# Altium integrated library TI Logic Multiplexer.IntLib: 724 symbols (part 8 of 16)
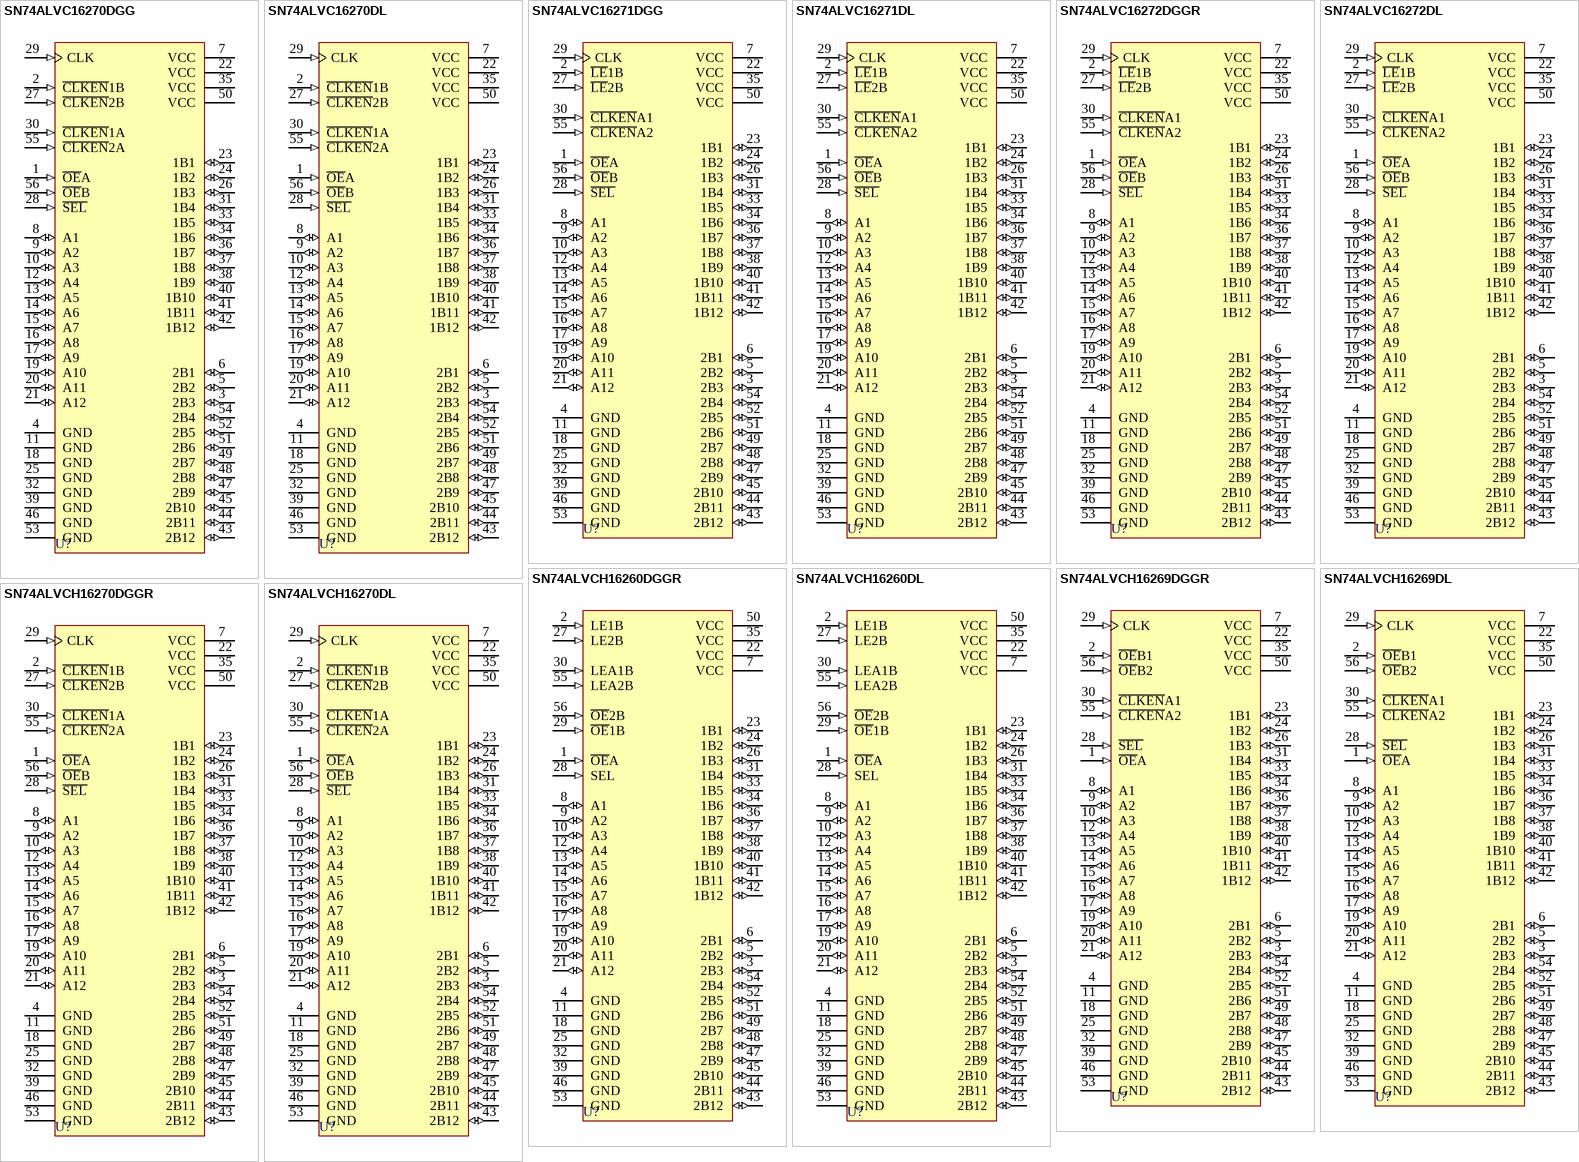
[diagram p31: symbols SN74ALVC16270DGG to SN74ALVCH16270DL]

## SN74ALVC16272DGGR
designator U?
12-Bit to 24-Bit Multiplexed Bus Exchanger with 3-State Outputs; Published: 8-Jun-2000; LatestRevisionDate: 29-Mar-2007; LatestRevisionNote: IPC-7351 Footprint Added.; DatasheetVersion: Mar-1994; PackageVersion: Jan-1998; PackageReference: DGG056; Publisher: Altium Limited; PackageDescription: 56-Pin Thin Shrink Small Outline Package 0.5 mm Pitch; Code_IPC: TSSOP50P810-56; ComponentLink1Description: Manufacturer Link; ComponentLink1URL: http://www.ti.com/
footprint DGG056_N (TSSOP, 56-Leads, Body 14x6.1mm, Pitch 0.5mm, IPC Medium Density)
footprint DGG056_L (TSSOP, 56-Leads, Body 14x6.1mm, Pitch 0.5mm, IPC High Density)
footprint DGG056_M (TSSOP, 56-Leads, Body 14x6.1mm, Pitch 0.5mm, IPC Low Density)
3D model DGG056 (56-Pin Thin Shrink Small Outline Package 0.5 mm Pitch)
signal-integrity model SN74ALVC16272DGGR
pins: 1 ~{OE}A (in), 2 ~{LE}1B (in), 3 2B3 (io), 4 GND (power), 5 2B2 (io), 6 2B1 (io), 7 VCC (power), 8 A1 (io), 9 A2 (io), 10 A3 (io), 11 GND (power), 12 A4 (io), 13 A5 (io), 14 A6 (io), 15 A7 (io), 16 A8 (io), 17 A9 (io), 18 GND (power), 19 A10 (io), 20 A11 (io), 21 A12 (io), 22 VCC (power), 23 1B1 (io), 24 1B2 (io), 25 GND (power), 26 1B3 (io), 27 ~{LE}2B (in), 28 ~{SEL} (in), 29 CLK (in), 30 ~{CLKEN}A1 (in), 31 1B4 (io), 32 GND (power), 33 1B5 (io), 34 1B6 (io), 35 VCC (power), 36 1B7 (io), 37 1B8 (io), 38 1B9 (io), 39 GND (power), 40 1B10 (io), 41 1B11 (io), 42 1B12 (io), 43 2B12 (io), 44 2B11 (io), 45 2B10 (io), 46 GND (power), 47 2B9 (io), 48 2B8 (io), 49 2B7 (io), 50 VCC (power), 51 2B6 (io), 52 2B5 (io), 53 GND (power), 54 2B4 (io), 55 ~{CLKEN}A2 (in), 56 ~{OE}B (in)

## SN74ALVC16272DL
designator U?
12-Bit to 24-Bit Multiplexed Bus Exchanger with 3-State Outputs; Published: 8-Jun-2000; LatestRevisionDate: 29-Mar-2007; LatestRevisionNote: IPC-7351 Footprint Added.; DatasheetVersion: Mar-1994; PackageVersion: Dec-2001; PackageReference: DL056; Publisher: Altium Limited; PackageDescription: 56-Pin Small Outline Package 0.635 mm Pitch; Code_JEDEC: MO-118-AB; Code_IPC: SOP635P1035-56; ComponentLink1Description: Manufacturer Link; ComponentLink1URL: http://www.ti.com/
footprint DL056_N (SOP, 56-Leads, Body 18.4x7.5mm, Pitch 0.635mm, IPC Medium Density)
footprint DL056_L (SOP, 56-Leads, Body 18.4x7.5mm, Pitch 0.635mm, IPC High Density)
footprint DL056_M (SOP, 56-Leads, Body 18.4x7.5mm, Pitch 0.635mm, IPC Low Density)
3D model DL056 (56-Pin Small Outline Package 0.635 mm Pitch)
signal-integrity model SN74ALVC16272DL
pins: 1 ~{OE}A (in), 2 ~{LE}1B (in), 3 2B3 (io), 4 GND (power), 5 2B2 (io), 6 2B1 (io), 7 VCC (power), 8 A1 (io), 9 A2 (io), 10 A3 (io), 11 GND (power), 12 A4 (io), 13 A5 (io), 14 A6 (io), 15 A7 (io), 16 A8 (io), 17 A9 (io), 18 GND (power), 19 A10 (io), 20 A11 (io), 21 A12 (io), 22 VCC (power), 23 1B1 (io), 24 1B2 (io), 25 GND (power), 26 1B3 (io), 27 ~{LE}2B (in), 28 ~{SEL} (in), 29 CLK (in), 30 ~{CLKEN}A1 (in), 31 1B4 (io), 32 GND (power), 33 1B5 (io), 34 1B6 (io), 35 VCC (power), 36 1B7 (io), 37 1B8 (io), 38 1B9 (io), 39 GND (power), 40 1B10 (io), 41 1B11 (io), 42 1B12 (io), 43 2B12 (io), 44 2B11 (io), 45 2B10 (io), 46 GND (power), 47 2B9 (io), 48 2B8 (io), 49 2B7 (io), 50 VCC (power), 51 2B6 (io), 52 2B5 (io), 53 GND (power), 54 2B4 (io), 55 ~{CLKEN}A2 (in), 56 ~{OE}B (in)

## SN74ALVCH16260DGGR
designator U?
12-Bit to 24-Bit Multiplexed D-Type Latch with 3-State Outputs; Published: 8-Jun-2000; LatestRevisionDate: 29-Mar-2007; LatestRevisionNote: IPC-7351 Footprint Added.; DatasheetVersion: Nov-1996; PackageVersion: Jan-1998; PackageReference: DGG056; Publisher: Altium Limited; PackageDescription: 56-Pin Thin Shrink Small Outline Package 0.5 mm Pitch; Code_IPC: TSSOP50P810-56; ComponentLink1Description: Manufacturer Link; ComponentLink1URL: http://www.ti.com/
footprint DGG056_N (TSSOP, 56-Leads, Body 14x6.1mm, Pitch 0.5mm, IPC Medium Density)
footprint DGG056_L (TSSOP, 56-Leads, Body 14x6.1mm, Pitch 0.5mm, IPC High Density)
footprint DGG056_M (TSSOP, 56-Leads, Body 14x6.1mm, Pitch 0.5mm, IPC Low Density)
3D model DGG056 (56-Pin Thin Shrink Small Outline Package 0.5 mm Pitch)
pins: 1 ~{OE}A (in), 2 LE1B (in), 3 2B3 (io), 4 GND (power), 5 2B2 (io), 6 2B1 (io), 7 VCC (power), 8 A1 (io), 9 A2 (io), 10 A3 (io), 11 GND (power), 12 A4 (io), 13 A5 (io), 14 A6 (io), 15 A7 (io), 16 A8 (io), 17 A9 (io), 18 GND (power), 19 A10 (io), 20 A11 (io), 21 A12 (io), 22 VCC (power), 23 1B1 (io), 24 1B2 (io), 25 GND (power), 26 1B3 (io), 27 LE2B (in), 28 SEL (in), 29 ~{OE}1B (in), 30 LEA1B (in), 31 1B4 (io), 32 GND (power), 33 1B5 (io), 34 1B6 (io), 35 VCC (power), 36 1B7 (io), 37 1B8 (io), 38 1B9 (io), 39 GND (power), 40 1B10 (io), 41 1B11 (io), 42 1B12 (io), 43 2B12 (io), 44 2B11 (io), 45 2B10 (io), 46 GND (power), 47 2B9 (io), 48 2B8 (io), 49 2B7 (io), 50 VCC (power), 51 2B6 (io), 52 2B5 (io), 53 GND (power), 54 2B4 (io), 55 LEA2B (in), 56 ~{OE}2B (in)

## SN74ALVCH16260DL
designator U?
12-Bit to 24-Bit Multiplexed D-Type Latch with 3-State Outputs; Published: 8-Jun-2000; LatestRevisionDate: 29-Mar-2007; LatestRevisionNote: IPC-7351 Footprint Added.; DatasheetVersion: Nov-1996; PackageVersion: Dec-2001; PackageReference: DL056; Publisher: Altium Limited; PackageDescription: 56-Pin Small Outline Package 0.635 mm Pitch; Code_JEDEC: MO-118-AB; Code_IPC: SOP635P1035-56; ComponentLink1Description: Manufacturer Link; ComponentLink1URL: http://www.ti.com/
footprint DL056_N (SOP, 56-Leads, Body 18.4x7.5mm, Pitch 0.635mm, IPC Medium Density)
footprint DL056_L (SOP, 56-Leads, Body 18.4x7.5mm, Pitch 0.635mm, IPC High Density)
footprint DL056_M (SOP, 56-Leads, Body 18.4x7.5mm, Pitch 0.635mm, IPC Low Density)
3D model DL056 (56-Pin Small Outline Package 0.635 mm Pitch)
pins: 1 ~{OE}A (in), 2 LE1B (in), 3 2B3 (io), 4 GND (power), 5 2B2 (io), 6 2B1 (io), 7 VCC (power), 8 A1 (io), 9 A2 (io), 10 A3 (io), 11 GND (power), 12 A4 (io), 13 A5 (io), 14 A6 (io), 15 A7 (io), 16 A8 (io), 17 A9 (io), 18 GND (power), 19 A10 (io), 20 A11 (io), 21 A12 (io), 22 VCC (power), 23 1B1 (io), 24 1B2 (io), 25 GND (power), 26 1B3 (io), 27 LE2B (in), 28 SEL (in), 29 ~{OE}1B (in), 30 LEA1B (in), 31 1B4 (io), 32 GND (power), 33 1B5 (io), 34 1B6 (io), 35 VCC (power), 36 1B7 (io), 37 1B8 (io), 38 1B9 (io), 39 GND (power), 40 1B10 (io), 41 1B11 (io), 42 1B12 (io), 43 2B12 (io), 44 2B11 (io), 45 2B10 (io), 46 GND (power), 47 2B9 (io), 48 2B8 (io), 49 2B7 (io), 50 VCC (power), 51 2B6 (io), 52 2B5 (io), 53 GND (power), 54 2B4 (io), 55 LEA2B (in), 56 ~{OE}2B (in)

## SN74ALVCH16269DGGR
designator U?
12-Bit to 24-Bit Registered Bus Transceiver with 3-State Outputs; Note: Pin 27 is not connected and not drawn; Published: 8-Jun-2000; LatestRevisionDate: 29-Mar-2007; LatestRevisionNote: IPC-7351 Footprint Added.; DatasheetVersion: Jul-1997; PackageVersion: Jan-1998; PackageReference: DGG056; Publisher: Altium Limited; PackageDescription: 56-Pin Thin Shrink Small Outline Package 0.5 mm Pitch; Code_IPC: TSSOP50P810-56; ComponentLink1Description: Manufacturer Link; ComponentLink1URL: http://www.ti.com/
footprint DGG056_N (TSSOP, 56-Leads, Body 14x6.1mm, Pitch 0.5mm, IPC Medium Density)
footprint DGG056_L (TSSOP, 56-Leads, Body 14x6.1mm, Pitch 0.5mm, IPC High Density)
footprint DGG056_M (TSSOP, 56-Leads, Body 14x6.1mm, Pitch 0.5mm, IPC Low Density)
3D model DGG056 (56-Pin Thin Shrink Small Outline Package 0.5 mm Pitch)
pins: 1 ~{OE}A (in), 2 ~{OE}B1 (in), 3 2B3 (io), 4 GND (power), 5 2B2 (io), 6 2B1 (io), 7 VCC (power), 8 A1 (io), 9 A2 (io), 10 A3 (io), 11 GND (power), 12 A4 (io), 13 A5 (io), 14 A6 (io), 15 A7 (io), 16 A8 (io), 17 A9 (io), 18 GND (power), 19 A10 (io), 20 A11 (io), 21 A12 (io), 22 VCC (power), 23 1B1 (io), 24 1B2 (io), 25 GND (power), 26 1B3 (io), 28 ~{SEL} (in), 29 CLK (in), 30 ~{CLKEN}A1 (in), 31 1B4 (io), 32 GND (power), 33 1B5 (io), 34 1B6 (io), 35 VCC (power), 36 1B7 (io), 37 1B8 (io), 38 1B9 (io), 39 GND (power), 40 1B10 (io), 41 1B11 (io), 42 1B12 (io), 43 2B12 (io), 44 2B11 (io), 45 2B10 (io), 46 GND (power), 47 2B9 (io), 48 2B8 (io), 49 2B7 (io), 50 VCC (power), 51 2B6 (io), 52 2B5 (io), 53 GND (power), 54 2B4 (io), 55 ~{CLKEN}A2 (in), 56 ~{OE}B2 (in)

## SN74ALVCH16269DL
designator U?
12-Bit to 24-Bit Registered Bus Transceiver with 3-State Outputs; Note: Pin 27 is not connected and not drawn; Published: 8-Jun-2000; LatestRevisionDate: 29-Mar-2007; LatestRevisionNote: IPC-7351 Footprint Added.; DatasheetVersion: Jul-1997; PackageVersion: Dec-2001; PackageReference: DL056; Publisher: Altium Limited; PackageDescription: 56-Pin Small Outline Package 0.635 mm Pitch; Code_JEDEC: MO-118-AB; Code_IPC: SOP635P1035-56; ComponentLink1Description: Manufacturer Link; ComponentLink1URL: http://www.ti.com/
footprint DL056_N (SOP, 56-Leads, Body 18.4x7.5mm, Pitch 0.635mm, IPC Medium Density)
footprint DL056_L (SOP, 56-Leads, Body 18.4x7.5mm, Pitch 0.635mm, IPC High Density)
footprint DL056_M (SOP, 56-Leads, Body 18.4x7.5mm, Pitch 0.635mm, IPC Low Density)
3D model DL056 (56-Pin Small Outline Package 0.635 mm Pitch)
pins: 1 ~{OE}A (in), 2 ~{OE}B1 (in), 3 2B3 (io), 4 GND (power), 5 2B2 (io), 6 2B1 (io), 7 VCC (power), 8 A1 (io), 9 A2 (io), 10 A3 (io), 11 GND (power), 12 A4 (io), 13 A5 (io), 14 A6 (io), 15 A7 (io), 16 A8 (io), 17 A9 (io), 18 GND (power), 19 A10 (io), 20 A11 (io), 21 A12 (io), 22 VCC (power), 23 1B1 (io), 24 1B2 (io), 25 GND (power), 26 1B3 (io), 28 ~{SEL} (in), 29 CLK (in), 30 ~{CLKEN}A1 (in), 31 1B4 (io), 32 GND (power), 33 1B5 (io), 34 1B6 (io), 35 VCC (power), 36 1B7 (io), 37 1B8 (io), 38 1B9 (io), 39 GND (power), 40 1B10 (io), 41 1B11 (io), 42 1B12 (io), 43 2B12 (io), 44 2B11 (io), 45 2B10 (io), 46 GND (power), 47 2B9 (io), 48 2B8 (io), 49 2B7 (io), 50 VCC (power), 51 2B6 (io), 52 2B5 (io), 53 GND (power), 54 2B4 (io), 55 ~{CLKEN}A2 (in), 56 ~{OE}B2 (in)

## SN74ALVCH16270DGGR
designator U?
12-Bit to 24-Bit Registered Bus Exchanger with 3-State Outputs; Published: 8-Jun-2000; LatestRevisionDate: 29-Mar-2007; LatestRevisionNote: IPC-7351 Footprint Added.; DatasheetVersion: Jul-1997; PackageVersion: Jan-1998; PackageReference: DGG056; Publisher: Altium Limited; PackageDescription: 56-Pin Thin Shrink Small Outline Package 0.5 mm Pitch; Code_IPC: TSSOP50P810-56; ComponentLink1Description: Manufacturer Link; ComponentLink1URL: http://www.ti.com/
footprint DGG056_N (TSSOP, 56-Leads, Body 14x6.1mm, Pitch 0.5mm, IPC Medium Density)
footprint DGG056_L (TSSOP, 56-Leads, Body 14x6.1mm, Pitch 0.5mm, IPC High Density)
footprint DGG056_M (TSSOP, 56-Leads, Body 14x6.1mm, Pitch 0.5mm, IPC Low Density)
3D model DGG056 (56-Pin Thin Shrink Small Outline Package 0.5 mm Pitch)
pins: 1 ~{OE}A (in), 2 ~{CLKEN}1B (in), 3 2B3 (io), 4 GND (power), 5 2B2 (io), 6 2B1 (io), 7 VCC (power), 8 A1 (io), 9 A2 (io), 10 A3 (io), 11 GND (power), 12 A4 (io), 13 A5 (io), 14 A6 (io), 15 A7 (io), 16 A8 (io), 17 A9 (io), 18 GND (power), 19 A10 (io), 20 A11 (io), 21 A12 (io), 22 VCC (power), 23 1B1 (io), 24 1B2 (io), 25 GND (power), 26 1B3 (io), 27 ~{CLKEN}2B (in), 28 ~{SEL} (in), 29 CLK (in), 30 ~{CLKEN}1A (in), 31 1B4 (io), 32 GND (power), 33 1B5 (io), 34 1B6 (io), 35 VCC (power), 36 1B7 (io), 37 1B8 (io), 38 1B9 (io), 39 GND (power), 40 1B10 (io), 41 1B11 (io), 42 1B12 (io), 43 2B12 (io), 44 2B11 (io), 45 2B10 (io), 46 GND (power), 47 2B9 (io), 48 2B8 (io), 49 2B7 (io), 50 VCC (power), 51 2B6 (io), 52 2B5 (io), 53 GND (power), 54 2B4 (io), 55 ~{CLKEN}2A (in), 56 ~{OE}B (in)

## SN74ALVCH16270DL
designator U?
12-Bit to 24-Bit Registered Bus Exchanger with 3-State Outputs; Published: 8-Jun-2000; LatestRevisionDate: 29-Mar-2007; LatestRevisionNote: IPC-7351 Footprint Added.; DatasheetVersion: Jul-1997; PackageVersion: Dec-2001; PackageReference: DL056; Publisher: Altium Limited; PackageDescription: 56-Pin Small Outline Package 0.635 mm Pitch; Code_JEDEC: MO-118-AB; Code_IPC: SOP635P1035-56; ComponentLink1Description: Manufacturer Link; ComponentLink1URL: http://www.ti.com/
footprint DL056_N (SOP, 56-Leads, Body 18.4x7.5mm, Pitch 0.635mm, IPC Medium Density)
footprint DL056_L (SOP, 56-Leads, Body 18.4x7.5mm, Pitch 0.635mm, IPC High Density)
footprint DL056_M (SOP, 56-Leads, Body 18.4x7.5mm, Pitch 0.635mm, IPC Low Density)
3D model DL056 (56-Pin Small Outline Package 0.635 mm Pitch)
pins: 1 ~{OE}A (in), 2 ~{CLKEN}1B (in), 3 2B3 (io), 4 GND (power), 5 2B2 (io), 6 2B1 (io), 7 VCC (power), 8 A1 (io), 9 A2 (io), 10 A3 (io), 11 GND (power), 12 A4 (io), 13 A5 (io), 14 A6 (io), 15 A7 (io), 16 A8 (io), 17 A9 (io), 18 GND (power), 19 A10 (io), 20 A11 (io), 21 A12 (io), 22 VCC (power), 23 1B1 (io), 24 1B2 (io), 25 GND (power), 26 1B3 (io), 27 ~{CLKEN}2B (in), 28 ~{SEL} (in), 29 CLK (in), 30 ~{CLKEN}1A (in), 31 1B4 (io), 32 GND (power), 33 1B5 (io), 34 1B6 (io), 35 VCC (power), 36 1B7 (io), 37 1B8 (io), 38 1B9 (io), 39 GND (power), 40 1B10 (io), 41 1B11 (io), 42 1B12 (io), 43 2B12 (io), 44 2B11 (io), 45 2B10 (io), 46 GND (power), 47 2B9 (io), 48 2B8 (io), 49 2B7 (io), 50 VCC (power), 51 2B6 (io), 52 2B5 (io), 53 GND (power), 54 2B4 (io), 55 ~{CLKEN}2A (in), 56 ~{OE}B (in)

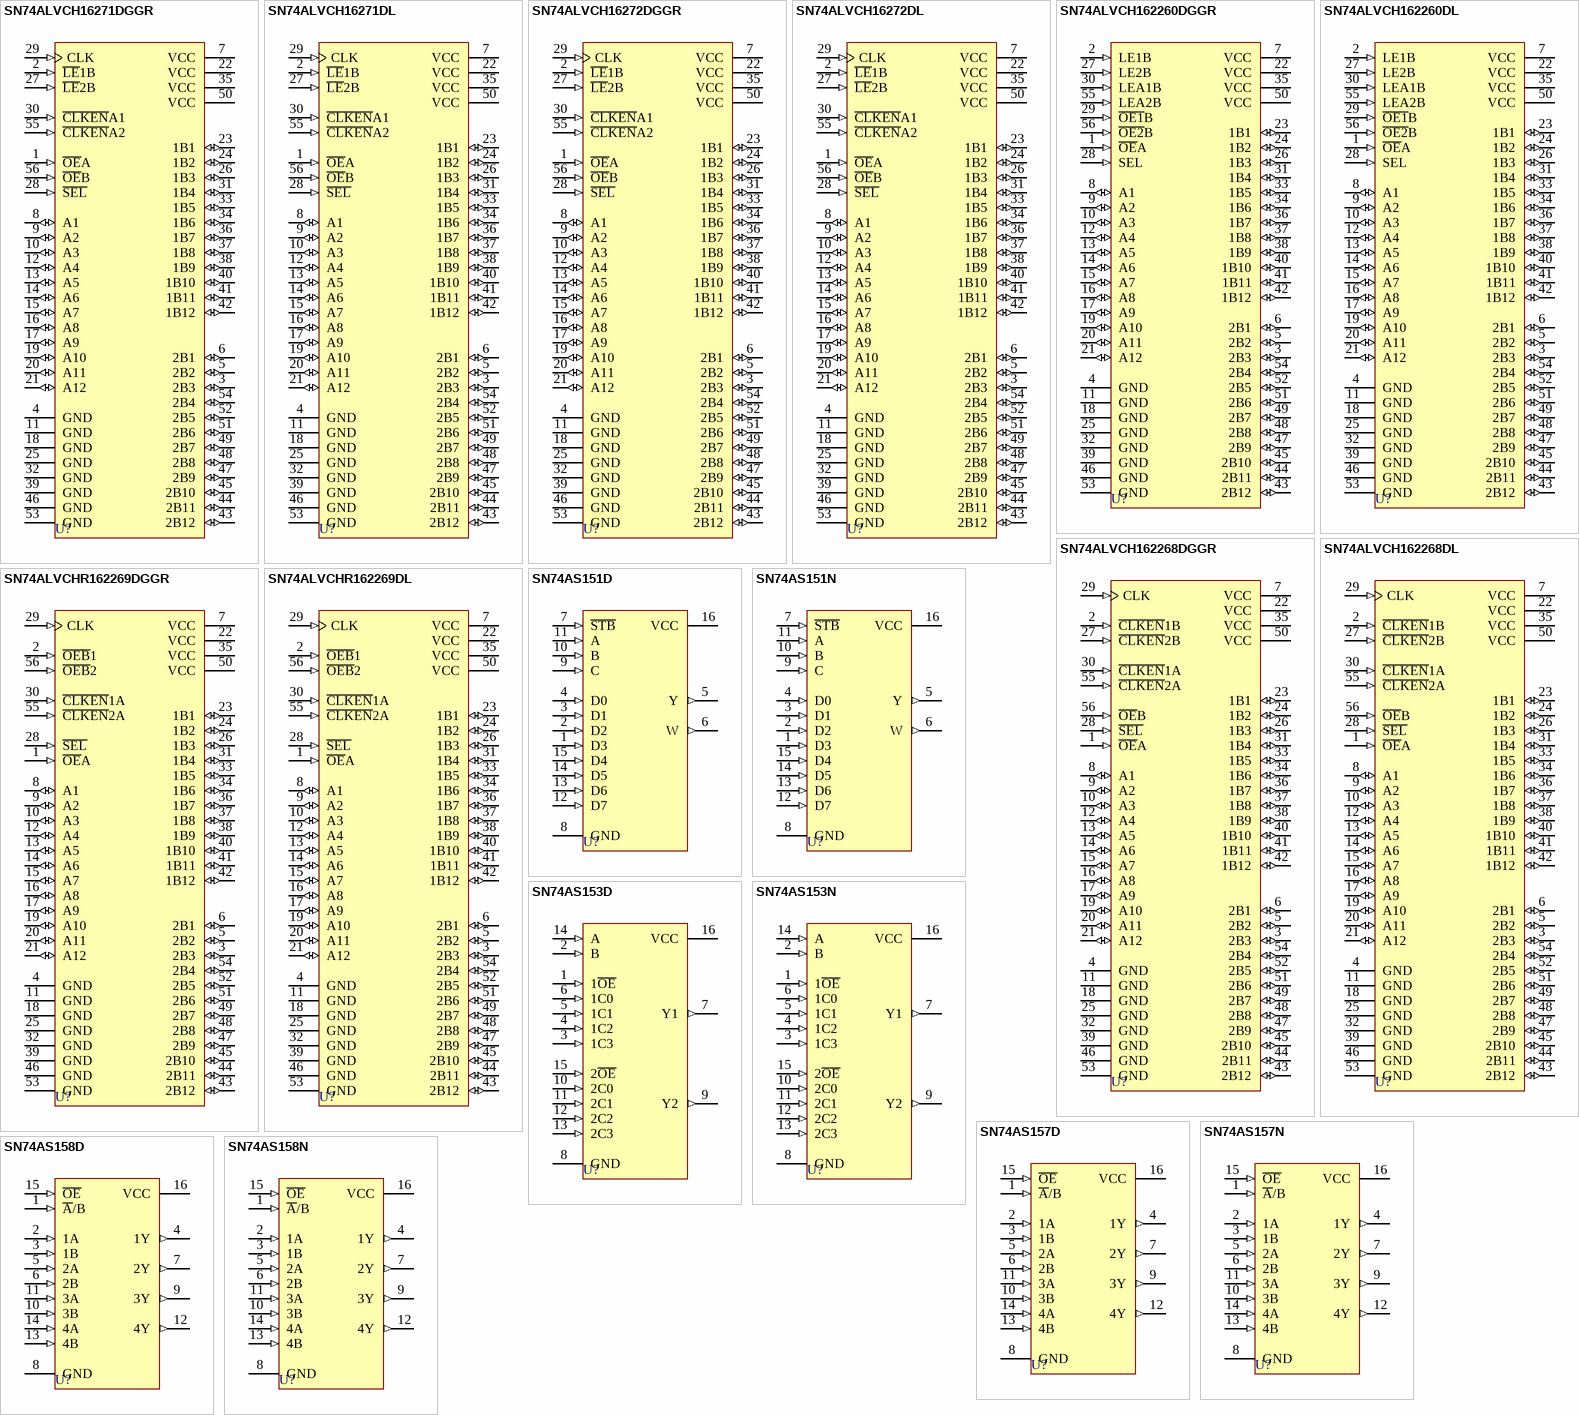
[diagram p12: symbols SN74ALVCH16271DGGR to SN74AS158N]

## SN74ALVCH16271DGGR
designator U?
12-Bit to 24-Bit Multiplexed Bus Exchanger with 3-State Outputs; Published: 8-Jun-2000; LatestRevisionDate: 29-Mar-2007; LatestRevisionNote: IPC-7351 Footprint Added.; DatasheetVersion: Jan-1997; PackageVersion: Jan-1998; PackageReference: DGG056; Publisher: Altium Limited; PackageDescription: 56-Pin Thin Shrink Small Outline Package 0.5 mm Pitch; Code_IPC: TSSOP50P810-56; ComponentLink1Description: Manufacturer Link; ComponentLink1URL: http://www.ti.com/
footprint DGG056_N (TSSOP, 56-Leads, Body 14x6.1mm, Pitch 0.5mm, IPC Medium Density)
footprint DGG056_L (TSSOP, 56-Leads, Body 14x6.1mm, Pitch 0.5mm, IPC High Density)
footprint DGG056_M (TSSOP, 56-Leads, Body 14x6.1mm, Pitch 0.5mm, IPC Low Density)
3D model DGG056 (56-Pin Thin Shrink Small Outline Package 0.5 mm Pitch)
pins: 1 ~{OE}A (in), 2 ~{LE}1B (in), 3 2B3 (io), 4 GND (power), 5 2B2 (io), 6 2B1 (io), 7 VCC (power), 8 A1 (io), 9 A2 (io), 10 A3 (io), 11 GND (power), 12 A4 (io), 13 A5 (io), 14 A6 (io), 15 A7 (io), 16 A8 (io), 17 A9 (io), 18 GND (power), 19 A10 (io), 20 A11 (io), 21 A12 (io), 22 VCC (power), 23 1B1 (io), 24 1B2 (io), 25 GND (power), 26 1B3 (io), 27 ~{LE}2B (in), 28 ~{SEL} (in), 29 CLK (in), 30 ~{CLKEN}A1 (in), 31 1B4 (io), 32 GND (power), 33 1B5 (io), 34 1B6 (io), 35 VCC (power), 36 1B7 (io), 37 1B8 (io), 38 1B9 (io), 39 GND (power), 40 1B10 (io), 41 1B11 (io), 42 1B12 (io), 43 2B12 (io), 44 2B11 (io), 45 2B10 (io), 46 GND (power), 47 2B9 (io), 48 2B8 (io), 49 2B7 (io), 50 VCC (power), 51 2B6 (io), 52 2B5 (io), 53 GND (power), 54 2B4 (io), 55 ~{CLKEN}A2 (in), 56 ~{OE}B (in)

## SN74ALVCH16271DL
designator U?
12-Bit to 24-Bit Multiplexed Bus Exchanger with 3-State Outputs; Published: 8-Jun-2000; LatestRevisionDate: 29-Mar-2007; LatestRevisionNote: IPC-7351 Footprint Added.; DatasheetVersion: Jan-1997; PackageVersion: Dec-2001; PackageReference: DL056; Publisher: Altium Limited; PackageDescription: 56-Pin Small Outline Package 0.635 mm Pitch; Code_JEDEC: MO-118-AB; Code_IPC: SOP635P1035-56; ComponentLink1Description: Manufacturer Link; ComponentLink1URL: http://www.ti.com/
footprint DL056_N (SOP, 56-Leads, Body 18.4x7.5mm, Pitch 0.635mm, IPC Medium Density)
footprint DL056_L (SOP, 56-Leads, Body 18.4x7.5mm, Pitch 0.635mm, IPC High Density)
footprint DL056_M (SOP, 56-Leads, Body 18.4x7.5mm, Pitch 0.635mm, IPC Low Density)
3D model DL056 (56-Pin Small Outline Package 0.635 mm Pitch)
pins: 1 ~{OE}A (in), 2 ~{LE}1B (in), 3 2B3 (io), 4 GND (power), 5 2B2 (io), 6 2B1 (io), 7 VCC (power), 8 A1 (io), 9 A2 (io), 10 A3 (io), 11 GND (power), 12 A4 (io), 13 A5 (io), 14 A6 (io), 15 A7 (io), 16 A8 (io), 17 A9 (io), 18 GND (power), 19 A10 (io), 20 A11 (io), 21 A12 (io), 22 VCC (power), 23 1B1 (io), 24 1B2 (io), 25 GND (power), 26 1B3 (io), 27 ~{LE}2B (in), 28 ~{SEL} (in), 29 CLK (in), 30 ~{CLKEN}A1 (in), 31 1B4 (io), 32 GND (power), 33 1B5 (io), 34 1B6 (io), 35 VCC (power), 36 1B7 (io), 37 1B8 (io), 38 1B9 (io), 39 GND (power), 40 1B10 (io), 41 1B11 (io), 42 1B12 (io), 43 2B12 (io), 44 2B11 (io), 45 2B10 (io), 46 GND (power), 47 2B9 (io), 48 2B8 (io), 49 2B7 (io), 50 VCC (power), 51 2B6 (io), 52 2B5 (io), 53 GND (power), 54 2B4 (io), 55 ~{CLKEN}A2 (in), 56 ~{OE}B (in)

## SN74ALVCH16272DGGR
designator U?
12-Bit to 24-Bit Multiplexed Bus Exchanger with 3-State Outputs; Published: 8-Jun-2000; LatestRevisionDate: 29-Mar-2007; LatestRevisionNote: IPC-7351 Footprint Added.; DatasheetVersion: Jan-1997; PackageVersion: Jan-1998; PackageReference: DGG056; Publisher: Altium Limited; PackageDescription: 56-Pin Thin Shrink Small Outline Package 0.5 mm Pitch; Code_IPC: TSSOP50P810-56; ComponentLink1Description: Manufacturer Link; ComponentLink1URL: http://www.ti.com/
footprint DGG056_N (TSSOP, 56-Leads, Body 14x6.1mm, Pitch 0.5mm, IPC Medium Density)
footprint DGG056_L (TSSOP, 56-Leads, Body 14x6.1mm, Pitch 0.5mm, IPC High Density)
footprint DGG056_M (TSSOP, 56-Leads, Body 14x6.1mm, Pitch 0.5mm, IPC Low Density)
3D model DGG056 (56-Pin Thin Shrink Small Outline Package 0.5 mm Pitch)
pins: 1 ~{OE}A (in), 2 ~{LE}1B (in), 3 2B3 (io), 4 GND (power), 5 2B2 (io), 6 2B1 (io), 7 VCC (power), 8 A1 (io), 9 A2 (io), 10 A3 (io), 11 GND (power), 12 A4 (io), 13 A5 (io), 14 A6 (io), 15 A7 (io), 16 A8 (io), 17 A9 (io), 18 GND (power), 19 A10 (io), 20 A11 (io), 21 A12 (io), 22 VCC (power), 23 1B1 (io), 24 1B2 (io), 25 GND (power), 26 1B3 (io), 27 ~{LE}2B (in), 28 ~{SEL} (in), 29 CLK (in), 30 ~{CLKEN}A1 (in), 31 1B4 (io), 32 GND (power), 33 1B5 (io), 34 1B6 (io), 35 VCC (power), 36 1B7 (io), 37 1B8 (io), 38 1B9 (io), 39 GND (power), 40 1B10 (io), 41 1B11 (io), 42 1B12 (io), 43 2B12 (io), 44 2B11 (io), 45 2B10 (io), 46 GND (power), 47 2B9 (io), 48 2B8 (io), 49 2B7 (io), 50 VCC (power), 51 2B6 (io), 52 2B5 (io), 53 GND (power), 54 2B4 (io), 55 ~{CLKEN}A2 (in), 56 ~{OE}B (in)

## SN74ALVCH16272DL
designator U?
12-Bit to 24-Bit Multiplexed Bus Exchanger with 3-State Outputs; Published: 8-Jun-2000; LatestRevisionDate: 29-Mar-2007; LatestRevisionNote: IPC-7351 Footprint Added.; DatasheetVersion: Jan-1997; PackageVersion: Dec-2001; PackageReference: DL056; Publisher: Altium Limited; PackageDescription: 56-Pin Small Outline Package 0.635 mm Pitch; Code_JEDEC: MO-118-AB; Code_IPC: SOP635P1035-56; ComponentLink1Description: Manufacturer Link; ComponentLink1URL: http://www.ti.com/
footprint DL056_N (SOP, 56-Leads, Body 18.4x7.5mm, Pitch 0.635mm, IPC Medium Density)
footprint DL056_L (SOP, 56-Leads, Body 18.4x7.5mm, Pitch 0.635mm, IPC High Density)
footprint DL056_M (SOP, 56-Leads, Body 18.4x7.5mm, Pitch 0.635mm, IPC Low Density)
3D model DL056 (56-Pin Small Outline Package 0.635 mm Pitch)
pins: 1 ~{OE}A (in), 2 ~{LE}1B (in), 3 2B3 (io), 4 GND (power), 5 2B2 (io), 6 2B1 (io), 7 VCC (power), 8 A1 (io), 9 A2 (io), 10 A3 (io), 11 GND (power), 12 A4 (io), 13 A5 (io), 14 A6 (io), 15 A7 (io), 16 A8 (io), 17 A9 (io), 18 GND (power), 19 A10 (io), 20 A11 (io), 21 A12 (io), 22 VCC (power), 23 1B1 (io), 24 1B2 (io), 25 GND (power), 26 1B3 (io), 27 ~{LE}2B (in), 28 ~{SEL} (in), 29 CLK (in), 30 ~{CLKEN}A1 (in), 31 1B4 (io), 32 GND (power), 33 1B5 (io), 34 1B6 (io), 35 VCC (power), 36 1B7 (io), 37 1B8 (io), 38 1B9 (io), 39 GND (power), 40 1B10 (io), 41 1B11 (io), 42 1B12 (io), 43 2B12 (io), 44 2B11 (io), 45 2B10 (io), 46 GND (power), 47 2B9 (io), 48 2B8 (io), 49 2B7 (io), 50 VCC (power), 51 2B6 (io), 52 2B5 (io), 53 GND (power), 54 2B4 (io), 55 ~{CLKEN}A2 (in), 56 ~{OE}B (in)

## SN74ALVCH162260DGGR
designator U?
12-Bit to 24-Bit Multiplexed D-Type Latch with 3-State Outputs; Published: 8-Jun-2000; LatestRevisionDate: 29-Mar-2007; LatestRevisionNote: IPC-7351 Footprint Added.; DatasheetVersion: Jun-1998; PackageVersion: Jan-1998; PackageReference: DGG056; Publisher: Altium Limited; PackageDescription: 56-Pin Thin Shrink Small Outline Package 0.5 mm Pitch; Code_IPC: TSSOP50P810-56; ComponentLink1Description: Manufacturer Link; ComponentLink1URL: http://www.ti.com/
footprint DGG056_N (TSSOP, 56-Leads, Body 14x6.1mm, Pitch 0.5mm, IPC Medium Density)
footprint DGG056_L (TSSOP, 56-Leads, Body 14x6.1mm, Pitch 0.5mm, IPC High Density)
footprint DGG056_M (TSSOP, 56-Leads, Body 14x6.1mm, Pitch 0.5mm, IPC Low Density)
3D model DGG056 (56-Pin Thin Shrink Small Outline Package 0.5 mm Pitch)
pins: 1 ~{OE}A (in), 2 LE1B (in), 3 2B3 (io), 4 GND (power), 5 2B2 (io), 6 2B1 (io), 7 VCC (power), 8 A1 (io), 9 A2 (io), 10 A3 (io), 11 GND (power), 12 A4 (io), 13 A5 (io), 14 A6 (io), 15 A7 (io), 16 A8 (io), 17 A9 (io), 18 GND (power), 19 A10 (io), 20 A11 (io), 21 A12 (io), 22 VCC (power), 23 1B1 (io), 24 1B2 (io), 25 GND (power), 26 1B3 (io), 27 LE2B (in), 28 SEL (in), 29 ~{OE1}B (in), 30 LEA1B (in), 31 1B4 (io), 32 GND (power), 33 1B5 (io), 34 1B6 (io), 35 VCC (power), 36 1B7 (io), 37 1B8 (io), 38 1B9 (io), 39 GND (power), 40 1B10 (io), 41 1B11 (io), 42 1B12 (io), 43 2B12 (io), 44 2B11 (io), 45 2B10 (io), 46 GND (power), 47 2B9 (io), 48 2B8 (io), 49 2B7 (io), 50 VCC (power), 51 2B6 (io), 52 2B5 (io), 53 GND (power), 54 2B4 (io), 55 LEA2B (in), 56 ~{OE2}B (in)

## SN74ALVCH162260DL
designator U?
12-Bit to 24-Bit Multiplexed D-Type Latch with 3-State Outputs; Published: 8-Jun-2000; LatestRevisionDate: 29-Mar-2007; LatestRevisionNote: IPC-7351 Footprint Added.; DatasheetVersion: Jun-1998; PackageVersion: Dec-2001; PackageReference: DL056; Publisher: Altium Limited; PackageDescription: 56-Pin Small Outline Package 0.635 mm Pitch; Code_JEDEC: MO-118-AB; Code_IPC: SOP635P1035-56; ComponentLink1Description: Manufacturer Link; ComponentLink1URL: http://www.ti.com/
footprint DL056_N (SOP, 56-Leads, Body 18.4x7.5mm, Pitch 0.635mm, IPC Medium Density)
footprint DL056_L (SOP, 56-Leads, Body 18.4x7.5mm, Pitch 0.635mm, IPC High Density)
footprint DL056_M (SOP, 56-Leads, Body 18.4x7.5mm, Pitch 0.635mm, IPC Low Density)
3D model DL056 (56-Pin Small Outline Package 0.635 mm Pitch)
pins: 1 ~{OE}A (in), 2 LE1B (in), 3 2B3 (io), 4 GND (power), 5 2B2 (io), 6 2B1 (io), 7 VCC (power), 8 A1 (io), 9 A2 (io), 10 A3 (io), 11 GND (power), 12 A4 (io), 13 A5 (io), 14 A6 (io), 15 A7 (io), 16 A8 (io), 17 A9 (io), 18 GND (power), 19 A10 (io), 20 A11 (io), 21 A12 (io), 22 VCC (power), 23 1B1 (io), 24 1B2 (io), 25 GND (power), 26 1B3 (io), 27 LE2B (in), 28 SEL (in), 29 ~{OE1}B (in), 30 LEA1B (in), 31 1B4 (io), 32 GND (power), 33 1B5 (io), 34 1B6 (io), 35 VCC (power), 36 1B7 (io), 37 1B8 (io), 38 1B9 (io), 39 GND (power), 40 1B10 (io), 41 1B11 (io), 42 1B12 (io), 43 2B12 (io), 44 2B11 (io), 45 2B10 (io), 46 GND (power), 47 2B9 (io), 48 2B8 (io), 49 2B7 (io), 50 VCC (power), 51 2B6 (io), 52 2B5 (io), 53 GND (power), 54 2B4 (io), 55 LEA2B (in), 56 ~{OE2}B (in)

## SN74ALVCH162268DGGR
designator U?
12-Bit to 24-Bit Registered Bus Exchanger with 3-State Outputs; Published: 8-Jun-2000; LatestRevisionDate: 29-Mar-2007; LatestRevisionNote: IPC-7351 Footprint Added.; DatasheetVersion: Jul-1997; PackageVersion: Jan-1998; PackageReference: DGG056; Publisher: Altium Limited; PackageDescription: 56-Pin Thin Shrink Small Outline Package 0.5 mm Pitch; Code_IPC: TSSOP50P810-56; ComponentLink1Description: Manufacturer Link; ComponentLink1URL: http://www.ti.com/
footprint DGG056_N (TSSOP, 56-Leads, Body 14x6.1mm, Pitch 0.5mm, IPC Medium Density)
footprint DGG056_L (TSSOP, 56-Leads, Body 14x6.1mm, Pitch 0.5mm, IPC High Density)
footprint DGG056_M (TSSOP, 56-Leads, Body 14x6.1mm, Pitch 0.5mm, IPC Low Density)
3D model DGG056 (56-Pin Thin Shrink Small Outline Package 0.5 mm Pitch)
pins: 1 ~{OE}A (in), 2 ~{CLKEN}1B (in), 3 2B3 (io), 4 GND (power), 5 2B2 (io), 6 2B1 (io), 7 VCC (power), 8 A1 (io), 9 A2 (io), 10 A3 (io), 11 GND (power), 12 A4 (io), 13 A5 (io), 14 A6 (io), 15 A7 (io), 16 A8 (io), 17 A9 (io), 18 GND (power), 19 A10 (io), 20 A11 (io), 21 A12 (io), 22 VCC (power), 23 1B1 (io), 24 1B2 (io), 25 GND (power), 26 1B3 (io), 27 ~{CLKEN}2B (in), 28 ~{SEL} (in), 29 CLK (in), 30 ~{CLKEN}1A (in), 31 1B4 (io), 32 GND (power), 33 1B5 (io), 34 1B6 (io), 35 VCC (power), 36 1B7 (io), 37 1B8 (io), 38 1B9 (io), 39 GND (power), 40 1B10 (io), 41 1B11 (io), 42 1B12 (io), 43 2B12 (io), 44 2B11 (io), 45 2B10 (io), 46 GND (power), 47 2B9 (io), 48 2B8 (io), 49 2B7 (io), 50 VCC (power), 51 2B6 (io), 52 2B5 (io), 53 GND (power), 54 2B4 (io), 55 ~{CLKEN}2A (in), 56 ~{OE}B (in)

## SN74ALVCH162268DL
designator U?
12-Bit to 24-Bit Registered Bus Exchanger with 3-State Outputs; Published: 8-Jun-2000; LatestRevisionDate: 29-Mar-2007; LatestRevisionNote: IPC-7351 Footprint Added.; DatasheetVersion: Jul-1997; PackageVersion: Dec-2001; PackageReference: DL056; Publisher: Altium Limited; PackageDescription: 56-Pin Small Outline Package 0.635 mm Pitch; Code_JEDEC: MO-118-AB; Code_IPC: SOP635P1035-56; ComponentLink1Description: Manufacturer Link; ComponentLink1URL: http://www.ti.com/
footprint DL056_N (SOP, 56-Leads, Body 18.4x7.5mm, Pitch 0.635mm, IPC Medium Density)
footprint DL056_L (SOP, 56-Leads, Body 18.4x7.5mm, Pitch 0.635mm, IPC High Density)
footprint DL056_M (SOP, 56-Leads, Body 18.4x7.5mm, Pitch 0.635mm, IPC Low Density)
3D model DL056 (56-Pin Small Outline Package 0.635 mm Pitch)
pins: 1 ~{OE}A (in), 2 ~{CLKEN}1B (in), 3 2B3 (io), 4 GND (power), 5 2B2 (io), 6 2B1 (io), 7 VCC (power), 8 A1 (io), 9 A2 (io), 10 A3 (io), 11 GND (power), 12 A4 (io), 13 A5 (io), 14 A6 (io), 15 A7 (io), 16 A8 (io), 17 A9 (io), 18 GND (power), 19 A10 (io), 20 A11 (io), 21 A12 (io), 22 VCC (power), 23 1B1 (io), 24 1B2 (io), 25 GND (power), 26 1B3 (io), 27 ~{CLKEN}2B (in), 28 ~{SEL} (in), 29 CLK (in), 30 ~{CLKEN}1A (in), 31 1B4 (io), 32 GND (power), 33 1B5 (io), 34 1B6 (io), 35 VCC (power), 36 1B7 (io), 37 1B8 (io), 38 1B9 (io), 39 GND (power), 40 1B10 (io), 41 1B11 (io), 42 1B12 (io), 43 2B12 (io), 44 2B11 (io), 45 2B10 (io), 46 GND (power), 47 2B9 (io), 48 2B8 (io), 49 2B7 (io), 50 VCC (power), 51 2B6 (io), 52 2B5 (io), 53 GND (power), 54 2B4 (io), 55 ~{CLKEN}2A (in), 56 ~{OE}B (in)

## SN74ALVCHR162269DGGR
designator U?
12-Bit to 24-Bit Registered Bus Exchanger with 3-State Outputs; Note: Pin 27 is not connected and not drawn; Published: 8-Jun-2000; LatestRevisionDate: 29-Mar-2007; LatestRevisionNote: IPC-7351 Footprint Added.; DatasheetVersion: Jan-1997; PackageVersion: Jan-1998; PackageReference: DGG056; Publisher: Altium Limited; PackageDescription: 56-Pin Thin Shrink Small Outline Package 0.5 mm Pitch; Code_IPC: TSSOP50P810-56; ComponentLink1Description: Manufacturer Link; ComponentLink1URL: http://www.ti.com/
footprint DGG056_N (TSSOP, 56-Leads, Body 14x6.1mm, Pitch 0.5mm, IPC Medium Density)
footprint DGG056_L (TSSOP, 56-Leads, Body 14x6.1mm, Pitch 0.5mm, IPC High Density)
footprint DGG056_M (TSSOP, 56-Leads, Body 14x6.1mm, Pitch 0.5mm, IPC Low Density)
3D model DGG056 (56-Pin Thin Shrink Small Outline Package 0.5 mm Pitch)
pins: 1 ~{OE}A (in), 2 ~{OEB}1 (in), 3 2B3 (io), 4 GND (power), 5 2B2 (io), 6 2B1 (io), 7 VCC (power), 8 A1 (io), 9 A2 (io), 10 A3 (io), 11 GND (power), 12 A4 (io), 13 A5 (io), 14 A6 (io), 15 A7 (io), 16 A8 (io), 17 A9 (io), 18 GND (power), 19 A10 (io), 20 A11 (io), 21 A12 (io), 22 VCC (power), 23 1B1 (io), 24 1B2 (io), 25 GND (power), 26 1B3 (io), 28 ~{SEL} (in), 29 CLK (in), 30 ~{CLKEN}1A (in), 31 1B4 (io), 32 GND (power), 33 1B5 (io), 34 1B6 (io), 35 VCC (power), 36 1B7 (io), 37 1B8 (io), 38 1B9 (io), 39 GND (power), 40 1B10 (io), 41 1B11 (io), 42 1B12 (io), 43 2B12 (io), 44 2B11 (io), 45 2B10 (io), 46 GND (power), 47 2B9 (io), 48 2B8 (io), 49 2B7 (io), 50 VCC (power), 51 2B6 (io), 52 2B5 (io), 53 GND (power), 54 2B4 (io), 55 ~{CLKEN}2A (in), 56 ~{OEB}2 (in)

## SN74ALVCHR162269DL
designator U?
12-Bit to 24-Bit Registered Bus Exchanger with 3-State Outputs; Note: Pin 27 is not connected and not drawn; Published: 8-Jun-2000; LatestRevisionDate: 29-Mar-2007; LatestRevisionNote: IPC-7351 Footprint Added.; DatasheetVersion: Jan-1997; PackageVersion: Dec-2001; PackageReference: DL056; Publisher: Altium Limited; PackageDescription: 56-Pin Small Outline Package 0.635 mm Pitch; Code_JEDEC: MO-118-AB; Code_IPC: SOP635P1035-56; ComponentLink1Description: Manufacturer Link; ComponentLink1URL: http://www.ti.com/
footprint DL056_N (SOP, 56-Leads, Body 18.4x7.5mm, Pitch 0.635mm, IPC Medium Density)
footprint DL056_L (SOP, 56-Leads, Body 18.4x7.5mm, Pitch 0.635mm, IPC High Density)
footprint DL056_M (SOP, 56-Leads, Body 18.4x7.5mm, Pitch 0.635mm, IPC Low Density)
3D model DL056 (56-Pin Small Outline Package 0.635 mm Pitch)
pins: 1 ~{OE}A (in), 2 ~{OEB}1 (in), 3 2B3 (io), 4 GND (power), 5 2B2 (io), 6 2B1 (io), 7 VCC (power), 8 A1 (io), 9 A2 (io), 10 A3 (io), 11 GND (power), 12 A4 (io), 13 A5 (io), 14 A6 (io), 15 A7 (io), 16 A8 (io), 17 A9 (io), 18 GND (power), 19 A10 (io), 20 A11 (io), 21 A12 (io), 22 VCC (power), 23 1B1 (io), 24 1B2 (io), 25 GND (power), 26 1B3 (io), 28 ~{SEL} (in), 29 CLK (in), 30 ~{CLKEN}1A (in), 31 1B4 (io), 32 GND (power), 33 1B5 (io), 34 1B6 (io), 35 VCC (power), 36 1B7 (io), 37 1B8 (io), 38 1B9 (io), 39 GND (power), 40 1B10 (io), 41 1B11 (io), 42 1B12 (io), 43 2B12 (io), 44 2B11 (io), 45 2B10 (io), 46 GND (power), 47 2B9 (io), 48 2B8 (io), 49 2B7 (io), 50 VCC (power), 51 2B6 (io), 52 2B5 (io), 53 GND (power), 54 2B4 (io), 55 ~{CLKEN}2A (in), 56 ~{OEB}2 (in)

## SN74AS151D
designator U?
1-of-8 Data Selector/Multiplexer; Published: 8-Jun-2000; LatestRevisionDate: 13-Apr-2006; LatestRevisionNote: IPC-7351 Footprint Added.; DatasheetVersion: Dec-1994; PackageVersion: Jan-1998; PackageReference: D016; Publisher: Altium Limited; PackageDescription: 16-Pin Small Outline Integrated Circuit 1.27 mm Pitch; Code_IPC: SOIC127P600-16; ComponentLink1Description: Manufacturer Link; ComponentLink1URL: http://www.ti.com/; ComponentLink2Description: Datasheet; ComponentLink2URL: http://www-s.ti.com/sc/ds/sn74als151.pdf
footprint D016_N (SOIC, 16-Leads, Body 9.9x3.9mm, Pitch 1.27mm, IPC Medium Density)
footprint D016_L (SOIC, 16-Leads, Body 9.9x3.9mm, Pitch 1.27mm, IPC High Density)
footprint D016_M (SOIC, 16-Leads, Body 9.9x3.9mm, Pitch 1.27mm, IPC Low Density)
3D model D016 (16-Pin Small Outline Integrated Circuit 1.27 mm Pitch)
signal-integrity model SN74AS151D
pins: 1 D3 (in), 2 D2 (in), 3 D1 (in), 4 D0 (in), 5 Y (out), 6 W (out), 7 ~{STB} (in), 8 GND (power), 9 C (in), 10 B (in), 11 A (in), 12 D7 (in), 13 D6 (in), 14 D5 (in), 15 D4 (in), 16 VCC (power)

## SN74AS151N
designator U?
1-of-8 Data Selector/Multiplexer; Published: 8-Jun-2000; LatestRevisionDate: 04-Mar-2005; LatestRevisionNote: Stylized 3D Model Added.; DatasheetVersion: Dec-1994; PackageVersion: Oct-1995; PackageReference: N016; Publisher: Altium Limited; PackageDescription: DIP; 16 Leads; Row Spacing 7.62 mm; Pitch 2.54 mm; Code_JEDEC: MS-001-BB; ComponentLink1Description: Manufacturer Link; ComponentLink1URL: http://www.ti.com/; ComponentLink2Description: Datasheet; ComponentLink2URL: http://www-s.ti.com/sc/ds/sn74als151.pdf
footprint N016 (DIP; 16 Leads; Row Spacing 7.62 mm; Pitch 2.54 mm)
3D model N016 (DIP; 16 Leads; Row Spacing 7.62 mm; Pitch 2.54 mm)
signal-integrity model SN74AS151N
pins: 1 D3 (in), 2 D2 (in), 3 D1 (in), 4 D0 (in), 5 Y (out), 6 W (out), 7 ~{STB} (in), 8 GND (power), 9 C (in), 10 B (in), 11 A (in), 12 D7 (in), 13 D6 (in), 14 D5 (in), 15 D4 (in), 16 VCC (power)

## SN74AS153D
designator U?
Dual 1-of-4 Data Selector/Multiplexer; Published: 8-Jun-2000; LatestRevisionDate: 13-Apr-2006; LatestRevisionNote: IPC-7351 Footprint Added.; DatasheetVersion: Dec-1994; PackageVersion: Jan-1998; PackageReference: D016; Publisher: Altium Limited; PackageDescription: 16-Pin Small Outline Integrated Circuit 1.27 mm Pitch; Code_IPC: SOIC127P600-16; ComponentLink1Description: Manufacturer Link; ComponentLink1URL: http://www.ti.com/; ComponentLink2Description: Datasheet; ComponentLink2URL: http://www-s.ti.com/sc/ds/sn74als153.pdf
footprint D016_N (SOIC, 16-Leads, Body 9.9x3.9mm, Pitch 1.27mm, IPC Medium Density)
footprint D016_L (SOIC, 16-Leads, Body 9.9x3.9mm, Pitch 1.27mm, IPC High Density)
footprint D016_M (SOIC, 16-Leads, Body 9.9x3.9mm, Pitch 1.27mm, IPC Low Density)
3D model D016 (16-Pin Small Outline Integrated Circuit 1.27 mm Pitch)
signal-integrity model SN74AS153D
pins: 1 1~{OE} (in), 2 B (in), 3 1C3 (in), 4 1C2 (in), 5 1C1 (in), 6 1C0 (in), 7 Y1 (out), 8 GND (power), 9 Y2 (out), 10 2C0 (in), 11 2C1 (in), 12 2C2 (in), 13 2C3 (in), 14 A (in), 15 2~{OE} (in), 16 VCC (power)

## SN74AS153N
designator U?
Dual 1-of-4 Data Selector/Multiplexer; Published: 8-Jun-2000; LatestRevisionDate: 04-Mar-2005; LatestRevisionNote: Stylized 3D Model Added.; DatasheetVersion: Dec-1994; PackageVersion: Oct-1995; PackageReference: N016; Publisher: Altium Limited; PackageDescription: DIP; 16 Leads; Row Spacing 7.62 mm; Pitch 2.54 mm; Code_JEDEC: MS-001-BB; ComponentLink1Description: Manufacturer Link; ComponentLink1URL: http://www.ti.com/; ComponentLink2Description: Datasheet; ComponentLink2URL: http://www-s.ti.com/sc/ds/sn74als153.pdf
footprint N016 (DIP; 16 Leads; Row Spacing 7.62 mm; Pitch 2.54 mm)
3D model N016 (DIP; 16 Leads; Row Spacing 7.62 mm; Pitch 2.54 mm)
signal-integrity model SN74AS153N
pins: 1 1~{OE} (in), 2 B (in), 3 1C3 (in), 4 1C2 (in), 5 1C1 (in), 6 1C0 (in), 7 Y1 (out), 8 GND (power), 9 Y2 (out), 10 2C0 (in), 11 2C1 (in), 12 2C2 (in), 13 2C3 (in), 14 A (in), 15 2~{OE} (in), 16 VCC (power)

## SN74AS157D
designator U?
Quadruple 1-of-2 Data Selector/Multiplexer; Published: 8-Jun-2000; LatestRevisionDate: 13-Apr-2006; LatestRevisionNote: IPC-7351 Footprint Added.; DatasheetVersion: Dec-1994; PackageVersion: Jan-1998; PackageReference: D016; Publisher: Altium Limited; PackageDescription: 16-Pin Small Outline Integrated Circuit 1.27 mm Pitch; Code_IPC: SOIC127P600-16; ComponentLink1Description: Manufacturer Link; ComponentLink1URL: http://www.ti.com/; ComponentLink2Description: Datasheet; ComponentLink2URL: http://www-s.ti.com/sc/ds/sn74als157a.pdf
footprint D016_N (SOIC, 16-Leads, Body 9.9x3.9mm, Pitch 1.27mm, IPC Medium Density)
footprint D016_L (SOIC, 16-Leads, Body 9.9x3.9mm, Pitch 1.27mm, IPC High Density)
footprint D016_M (SOIC, 16-Leads, Body 9.9x3.9mm, Pitch 1.27mm, IPC Low Density)
3D model D016 (16-Pin Small Outline Integrated Circuit 1.27 mm Pitch)
signal-integrity model SN74AS157D
pins: 1 ~{A}/B (in), 2 1A (in), 3 1B (in), 4 1Y (out), 5 2A (in), 6 2B (in), 7 2Y (out), 8 GND (power), 9 3Y (out), 10 3B (in), 11 3A (in), 12 4Y (out), 13 4B (in), 14 4A (in), 15 ~{OE} (in), 16 VCC (power)

## SN74AS157N
designator U?
Quadruple 1-of-2 Data Selector/Multiplexer; Published: 8-Jun-2000; LatestRevisionDate: 04-Mar-2005; LatestRevisionNote: Stylized 3D Model Added.; DatasheetVersion: Dec-1994; PackageVersion: Oct-1995; PackageReference: N016; Publisher: Altium Limited; PackageDescription: DIP; 16 Leads; Row Spacing 7.62 mm; Pitch 2.54 mm; Code_JEDEC: MS-001-BB; ComponentLink1Description: Manufacturer Link; ComponentLink1URL: http://www.ti.com/; ComponentLink2Description: Datasheet; ComponentLink2URL: http://www-s.ti.com/sc/ds/sn74als157a.pdf
footprint N016 (DIP; 16 Leads; Row Spacing 7.62 mm; Pitch 2.54 mm)
3D model N016 (DIP; 16 Leads; Row Spacing 7.62 mm; Pitch 2.54 mm)
signal-integrity model SN74AS157N
pins: 1 ~{A}/B (in), 2 1A (in), 3 1B (in), 4 1Y (out), 5 2A (in), 6 2B (in), 7 2Y (out), 8 GND (power), 9 3Y (out), 10 3B (in), 11 3A (in), 12 4Y (out), 13 4B (in), 14 4A (in), 15 ~{OE} (in), 16 VCC (power)

## SN74AS158D
designator U?
Quadruple 1-of-2 Data Selector/Multiplexer; Published: 8-Jun-2000; LatestRevisionDate: 13-Apr-2006; LatestRevisionNote: IPC-7351 Footprint Added.; DatasheetVersion: Dec-1994; PackageVersion: Jan-1998; PackageReference: D016; Publisher: Altium Limited; PackageDescription: 16-Pin Small Outline Integrated Circuit 1.27 mm Pitch; Code_IPC: SOIC127P600-16; ComponentLink1Description: Manufacturer Link; ComponentLink1URL: http://www.ti.com/; ComponentLink2Description: Datasheet; ComponentLink2URL: http://www-s.ti.com/sc/ds/sn74als157a.pdf
footprint D016_N (SOIC, 16-Leads, Body 9.9x3.9mm, Pitch 1.27mm, IPC Medium Density)
footprint D016_L (SOIC, 16-Leads, Body 9.9x3.9mm, Pitch 1.27mm, IPC High Density)
footprint D016_M (SOIC, 16-Leads, Body 9.9x3.9mm, Pitch 1.27mm, IPC Low Density)
3D model D016 (16-Pin Small Outline Integrated Circuit 1.27 mm Pitch)
signal-integrity model SN74AS158D
pins: 1 ~{A}/B (in), 2 1A (in), 3 1B (in), 4 1Y (out), 5 2A (in), 6 2B (in), 7 2Y (out), 8 GND (power), 9 3Y (out), 10 3B (in), 11 3A (in), 12 4Y (out), 13 4B (in), 14 4A (in), 15 ~{OE} (in), 16 VCC (power)

## SN74AS158N
designator U?
Quadruple 1-of-2 Data Selector/Multiplexer; Published: 8-Jun-2000; LatestRevisionDate: 04-Mar-2005; LatestRevisionNote: Stylized 3D Model Added.; DatasheetVersion: Dec-1994; PackageVersion: Oct-1995; PackageReference: N016; Publisher: Altium Limited; PackageDescription: DIP; 16 Leads; Row Spacing 7.62 mm; Pitch 2.54 mm; Code_JEDEC: MS-001-BB; ComponentLink1Description: Manufacturer Link; ComponentLink1URL: http://www.ti.com/; ComponentLink2Description: Datasheet; ComponentLink2URL: http://www-s.ti.com/sc/ds/sn74als157a.pdf
footprint N016 (DIP; 16 Leads; Row Spacing 7.62 mm; Pitch 2.54 mm)
3D model N016 (DIP; 16 Leads; Row Spacing 7.62 mm; Pitch 2.54 mm)
signal-integrity model SN74AS158N
pins: 1 ~{A}/B (in), 2 1A (in), 3 1B (in), 4 1Y (out), 5 2A (in), 6 2B (in), 7 2Y (out), 8 GND (power), 9 3Y (out), 10 3B (in), 11 3A (in), 12 4Y (out), 13 4B (in), 14 4A (in), 15 ~{OE} (in), 16 VCC (power)

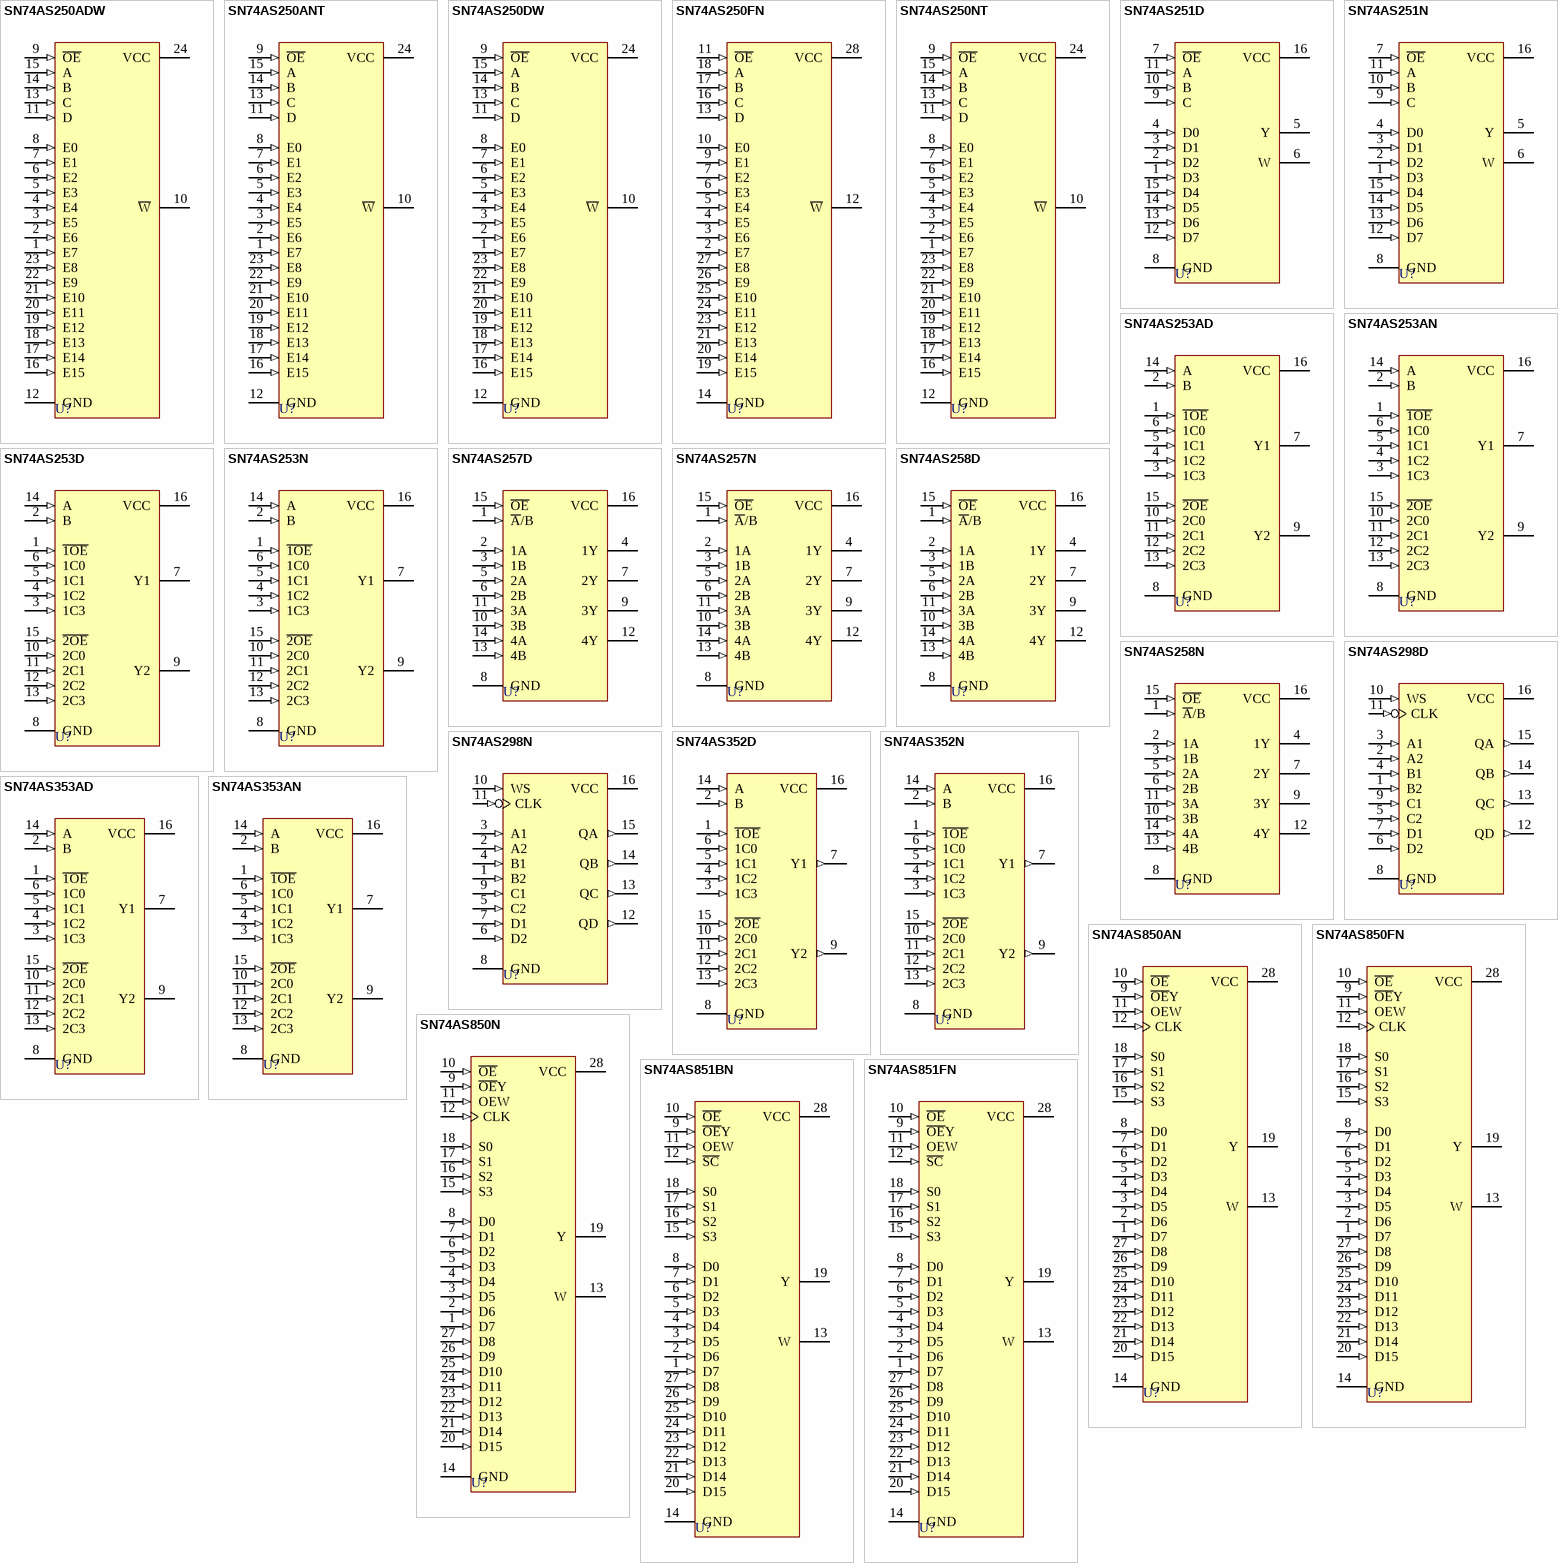
[diagram p13: symbols SN74AS250ADW to SN74AS851FN]

## SN74AS250ADW
designator U?
1-of-16 Data Generator/Multiplexer with 3-State Outputs; Published: 8-Jun-2000; LatestRevisionDate: 13-Apr-2006; LatestRevisionNote: IPC-7351 Footprint Added.; DatasheetVersion: Dec-1994; PackageVersion: Mar-2000; PackageReference: DW024; Publisher: Altium Limited; PackageDescription: 24-Pin Plastic Small Outline Integrated Circuit 1.27 mm Pitch; Code_JEDEC: MS-013; ComponentLink1Description: Manufacturer Link; ComponentLink1URL: http://www.ti.com/; ComponentLink2Description: Datasheet; ComponentLink2URL: http://www-s.ti.com/sc/ds/sn74as250a.pdf
footprint DW024_N (SOIC, 24-Leads, Body 15.4x7.5mm, Pitch 1.27mm, IPC Medium Density)
footprint DW024_L (SOIC, 24-Leads, Body 15.4x7.5mm, Pitch 1.27mm, IPC High Density)
footprint DW024_M (SOIC, 24-Leads, Body 15.4x7.5mm, Pitch 1.27mm, IPC Low Density)
3D model DW024 (24-Pin Plastic Small Outline Integrated Circuit 1.27 mm Pitch)
signal-integrity model SN74AS250ADW
pins: 1 E7 (in), 2 E6 (in), 3 E5 (in), 4 E4 (in), 5 E3 (in), 6 E2 (in), 7 E1 (in), 8 E0 (in), 9 ~{OE} (in), 10 ~{W} (hiz), 11 D (in), 12 GND (power), 13 C (in), 14 B (in), 15 A (in), 16 E15 (in), 17 E14 (in), 18 E13 (in), 19 E12 (in), 20 E11 (in), 21 E10 (in), 22 E9 (in), 23 E8 (in), 24 VCC (power)

## SN74AS250ANT
designator U?
1-of-16 Data Generator/Multiplexer with 3-State Outputs; Published: 8-Jun-2000; LatestRevisionDate: 04-Mar-2005; LatestRevisionNote: Stylized 3D Model Added.; DatasheetVersion: Dec-1994; PackageVersion: Oct-1994; PackageReference: NT024; Publisher: Altium Limited; PackageDescription: DIP; 24 Leads; Row Spacing 7.62 mm; Pitch 2.54 mm; Code_JEDEC: MS-001-AF; ComponentLink1Description: Manufacturer Link; ComponentLink1URL: http://www.ti.com/; ComponentLink2Description: Datasheet; ComponentLink2URL: http://www-s.ti.com/sc/ds/sn74as250a.pdf
footprint NT024 (DIP; 24 Leads; Row Spacing 7.62 mm; Pitch 2.54 mm)
3D model JT024 (DIP; 24 Leads; Row Spacing 7.62 mm; Pitch 2.54 mm)
signal-integrity model SN74AS250ANT
pins: 1 E7 (in), 2 E6 (in), 3 E5 (in), 4 E4 (in), 5 E3 (in), 6 E2 (in), 7 E1 (in), 8 E0 (in), 9 ~{OE} (in), 10 ~{W} (hiz), 11 D (in), 12 GND (power), 13 C (in), 14 B (in), 15 A (in), 16 E15 (in), 17 E14 (in), 18 E13 (in), 19 E12 (in), 20 E11 (in), 21 E10 (in), 22 E9 (in), 23 E8 (in), 24 VCC (power)

## SN74AS250DW
designator U?
1-of-16 Data Generator/Multiplexer with 3-State Outputs; Published: 8-Jun-2000; LatestRevisionDate: 13-Apr-2006; LatestRevisionNote: IPC-7351 Footprint Added.; DatasheetVersion: Jan-1986; PackageVersion: Mar-2000; PackageReference: DW024; Publisher: Altium Limited; PackageDescription: 24-Pin Plastic Small Outline Integrated Circuit 1.27 mm Pitch; Code_JEDEC: MS-013; ComponentLink1Description: Manufacturer Link; ComponentLink1URL: http://www.ti.com/
footprint DW024_N (SOIC, 24-Leads, Body 15.4x7.5mm, Pitch 1.27mm, IPC Medium Density)
footprint DW024_L (SOIC, 24-Leads, Body 15.4x7.5mm, Pitch 1.27mm, IPC High Density)
footprint DW024_M (SOIC, 24-Leads, Body 15.4x7.5mm, Pitch 1.27mm, IPC Low Density)
3D model DW024 (24-Pin Plastic Small Outline Integrated Circuit 1.27 mm Pitch)
signal-integrity model SN74AS250DW
pins: 1 E7 (in), 2 E6 (in), 3 E5 (in), 4 E4 (in), 5 E3 (in), 6 E2 (in), 7 E1 (in), 8 E0 (in), 9 ~{OE} (in), 10 ~{W} (hiz), 11 D (in), 12 GND (power), 13 C (in), 14 B (in), 15 A (in), 16 E15 (in), 17 E14 (in), 18 E13 (in), 19 E12 (in), 20 E11 (in), 21 E10 (in), 22 E9 (in), 23 E8 (in), 24 VCC (power)

## SN74AS250FN
designator U?
1-of-16 Data Generator/Multiplexer with 3-State Outputs; Note: Pins 1, 8, 15 and 22 are not connected and not drawn; Published: 8-Jun-2000; LatestRevisionDate: 13-Apr-2006; LatestRevisionNote: IPC-7351 Footprint Added.; DatasheetVersion: Jan-1986; PackageVersion: Oct-1994; PackageReference: FN028; Publisher: Altium Limited; PackageDescription: 28-Pin Leaded Chip Carrier 1.27 mm Pitch; Code_JEDEC: MS-018; Code_IPC: PLCC-28; ComponentLink1Description: Manufacturer Link; ComponentLink1URL: http://www.ti.com/
footprint FN028_N (Leaded Chip Carrier, 28-Leads, Body 11.5x11.5mm, Pitch 1.27mm, IPC Medium Density)
footprint FN028_L (Leaded Chip Carrier, 28-Leads, Body 11.5x11.5mm, Pitch 1.27mm, IPC High Density)
footprint FN028_M (Leaded Chip Carrier, 28-Leads, Body 11.5x11.5mm, Pitch 1.27mm, IPC Low Density)
3D model SN74AS250-FN028 (28-Pin Leaded Chip Carrier 1.27 mm Pitch)
signal-integrity model SN74AS250FN
pins: 2 E7 (in), 3 E6 (in), 4 E5 (in), 5 E4 (in), 6 E3 (in), 7 E2 (in), 9 E1 (in), 10 E0 (in), 11 ~{OE} (in), 12 ~{W} (hiz), 13 D (in), 14 GND (power), 16 C (in), 17 B (in), 18 A (in), 19 E15 (in), 20 E14 (in), 21 E13 (in), 23 E12 (in), 24 E11 (in), 25 E10 (in), 26 E9 (in), 27 E8 (in), 28 VCC (power)

## SN74AS250NT
designator U?
1-of-16 Data Generator/Multiplexer with 3-State Outputs; Published: 8-Jun-2000; LatestRevisionDate: 04-Mar-2005; LatestRevisionNote: Stylized 3D Model Added.; DatasheetVersion: Jan-1986; PackageVersion: Oct-1994; PackageReference: NT024D; Publisher: Altium Limited; PackageDescription: DIP; 24 Leads; Row Spacing 7.62 mm; Pitch 2.54 mm; Code_JEDEC: MS-001-AF; ComponentLink1Description: Manufacturer Link; ComponentLink1URL: http://www.ti.com/
footprint NT024D (DIP; 24 Leads; Row Spacing 7.62 mm; Pitch 2.54 mm)
3D model JT024 (DIP; 24 Leads; Row Spacing 7.62 mm; Pitch 2.54 mm)
signal-integrity model SN74AS250NT
pins: 1 E7 (in), 2 E6 (in), 3 E5 (in), 4 E4 (in), 5 E3 (in), 6 E2 (in), 7 E1 (in), 8 E0 (in), 9 ~{OE} (in), 10 ~{W} (hiz), 11 D (in), 12 GND (power), 13 C (in), 14 B (in), 15 A (in), 16 E15 (in), 17 E14 (in), 18 E13 (in), 19 E12 (in), 20 E11 (in), 21 E10 (in), 22 E9 (in), 23 E8 (in), 24 VCC (power)

## SN74AS251D
designator U?
1-of-8 Data Selector/Multiplexer with 3-State Outputs; Published: 8-Jun-2000; LatestRevisionDate: 13-Apr-2006; LatestRevisionNote: IPC-7351 Footprint Added.; DatasheetVersion: May-1986; PackageVersion: Jan-1998; PackageReference: D016; Publisher: Altium Limited; PackageDescription: 16-Pin Small Outline Integrated Circuit 1.27 mm Pitch; Code_IPC: SOIC127P600-16; ComponentLink1Description: Manufacturer Link; ComponentLink1URL: http://www.ti.com/
footprint D016_N (SOIC, 16-Leads, Body 9.9x3.9mm, Pitch 1.27mm, IPC Medium Density)
footprint D016_L (SOIC, 16-Leads, Body 9.9x3.9mm, Pitch 1.27mm, IPC High Density)
footprint D016_M (SOIC, 16-Leads, Body 9.9x3.9mm, Pitch 1.27mm, IPC Low Density)
3D model D016 (16-Pin Small Outline Integrated Circuit 1.27 mm Pitch)
signal-integrity model SN74AS251D
pins: 1 D3 (in), 2 D2 (in), 3 D1 (in), 4 D0 (in), 5 Y (hiz), 6 W (hiz), 7 ~{OE} (in), 8 GND (power), 9 C (in), 10 B (in), 11 A (in), 12 D7 (in), 13 D6 (in), 14 D5 (in), 15 D4 (in), 16 VCC (power)

## SN74AS251N
designator U?
1-of-8 Data Selector/Multiplexer with 3-State Outputs; Published: 8-Jun-2000; LatestRevisionDate: 04-Mar-2005; LatestRevisionNote: Stylized 3D Model Added.; DatasheetVersion: May-1986; PackageVersion: Oct-1995; PackageReference: N016D; Publisher: Altium Limited; PackageDescription: DIP; 16 Leads; Row Spacing 7.62 mm; Pitch 2.54 mm; Code_JEDEC: MS-001-BB; ComponentLink1Description: Manufacturer Link; ComponentLink1URL: http://www.ti.com/
footprint N016D (DIP; 16 Leads; Row Spacing 7.62 mm; Pitch 2.54 mm)
3D model N016 (DIP; 16 Leads; Row Spacing 7.62 mm; Pitch 2.54 mm)
signal-integrity model SN74AS251N
pins: 1 D3 (in), 2 D2 (in), 3 D1 (in), 4 D0 (in), 5 Y (hiz), 6 W (hiz), 7 ~{OE} (in), 8 GND (power), 9 C (in), 10 B (in), 11 A (in), 12 D7 (in), 13 D6 (in), 14 D5 (in), 15 D4 (in), 16 VCC (power)

## SN74AS253AD
designator U?
Dual 1-of-4 Data Selector/Multiplexer with 3-State Outputs; Published: 8-Jun-2000; LatestRevisionDate: 13-Apr-2006; LatestRevisionNote: IPC-7351 Footprint Added.; DatasheetVersion: Dec-1994; PackageVersion: Jan-1998; PackageReference: D016; Publisher: Altium Limited; PackageDescription: 16-Pin Small Outline Integrated Circuit 1.27 mm Pitch; Code_IPC: SOIC127P600-16; ComponentLink1Description: Manufacturer Link; ComponentLink1URL: http://www.ti.com/; ComponentLink2Description: Datasheet; ComponentLink2URL: http://www-s.ti.com/sc/ds/sn74as253a.pdf
footprint D016_N (SOIC, 16-Leads, Body 9.9x3.9mm, Pitch 1.27mm, IPC Medium Density)
footprint D016_L (SOIC, 16-Leads, Body 9.9x3.9mm, Pitch 1.27mm, IPC High Density)
footprint D016_M (SOIC, 16-Leads, Body 9.9x3.9mm, Pitch 1.27mm, IPC Low Density)
3D model D016 (16-Pin Small Outline Integrated Circuit 1.27 mm Pitch)
signal-integrity model SN74AS253AD
pins: 1 ~{1OE} (in), 2 B (in), 3 1C3 (in), 4 1C2 (in), 5 1C1 (in), 6 1C0 (in), 7 Y1 (hiz), 8 GND (power), 9 Y2 (hiz), 10 2C0 (in), 11 2C1 (in), 12 2C2 (in), 13 2C3 (in), 14 A (in), 15 ~{2OE} (in), 16 VCC (power)

## SN74AS253AN
designator U?
Dual 1-of-4 Data Selector/Multiplexer with 3-State Outputs; Published: 8-Jun-2000; LatestRevisionDate: 04-Mar-2005; LatestRevisionNote: Stylized 3D Model Added.; DatasheetVersion: Dec-1994; PackageVersion: Oct-1995; PackageReference: N016; Publisher: Altium Limited; PackageDescription: DIP; 16 Leads; Row Spacing 7.62 mm; Pitch 2.54 mm; Code_JEDEC: MS-001-BB; ComponentLink1Description: Manufacturer Link; ComponentLink1URL: http://www.ti.com/; ComponentLink2Description: Datasheet; ComponentLink2URL: http://www-s.ti.com/sc/ds/sn74as253a.pdf
footprint N016 (DIP; 16 Leads; Row Spacing 7.62 mm; Pitch 2.54 mm)
3D model N016 (DIP; 16 Leads; Row Spacing 7.62 mm; Pitch 2.54 mm)
signal-integrity model SN74AS253AN
pins: 1 ~{1OE} (in), 2 B (in), 3 1C3 (in), 4 1C2 (in), 5 1C1 (in), 6 1C0 (in), 7 Y1 (hiz), 8 GND (power), 9 Y2 (hiz), 10 2C0 (in), 11 2C1 (in), 12 2C2 (in), 13 2C3 (in), 14 A (in), 15 ~{2OE} (in), 16 VCC (power)

## SN74AS253D
designator U?
Dual 1-of-4 Data Selector/Multiplexer with 3-State Outputs; Published: 8-Jun-2000; LatestRevisionDate: 13-Apr-2006; LatestRevisionNote: IPC-7351 Footprint Added.; DatasheetVersion: May-1986; PackageVersion: Jan-1998; PackageReference: D016; Publisher: Altium Limited; PackageDescription: 16-Pin Small Outline Integrated Circuit 1.27 mm Pitch; Code_IPC: SOIC127P600-16; ComponentLink1Description: Manufacturer Link; ComponentLink1URL: http://www.ti.com/
footprint D016_N (SOIC, 16-Leads, Body 9.9x3.9mm, Pitch 1.27mm, IPC Medium Density)
footprint D016_L (SOIC, 16-Leads, Body 9.9x3.9mm, Pitch 1.27mm, IPC High Density)
footprint D016_M (SOIC, 16-Leads, Body 9.9x3.9mm, Pitch 1.27mm, IPC Low Density)
3D model D016 (16-Pin Small Outline Integrated Circuit 1.27 mm Pitch)
signal-integrity model SN74AS253D
pins: 1 ~{1OE} (in), 2 B (in), 3 1C3 (in), 4 1C2 (in), 5 1C1 (in), 6 1C0 (in), 7 Y1 (hiz), 8 GND (power), 9 Y2 (hiz), 10 2C0 (in), 11 2C1 (in), 12 2C2 (in), 13 2C3 (in), 14 A (in), 15 ~{2OE} (in), 16 VCC (power)

## SN74AS253N
designator U?
Dual 1-of-4 Data Selector/Multiplexer with 3-State Outputs; Published: 8-Jun-2000; LatestRevisionDate: 04-Mar-2005; LatestRevisionNote: Stylized 3D Model Added.; DatasheetVersion: May-1986; PackageVersion: Oct-1995; PackageReference: N016D; Publisher: Altium Limited; PackageDescription: DIP; 16 Leads; Row Spacing 7.62 mm; Pitch 2.54 mm; Code_JEDEC: MS-001-BB; ComponentLink1Description: Manufacturer Link; ComponentLink1URL: http://www.ti.com/
footprint N016D (DIP; 16 Leads; Row Spacing 7.62 mm; Pitch 2.54 mm)
3D model N016 (DIP; 16 Leads; Row Spacing 7.62 mm; Pitch 2.54 mm)
signal-integrity model SN74AS253N
pins: 1 ~{1OE} (in), 2 B (in), 3 1C3 (in), 4 1C2 (in), 5 1C1 (in), 6 1C0 (in), 7 Y1 (hiz), 8 GND (power), 9 Y2 (hiz), 10 2C0 (in), 11 2C1 (in), 12 2C2 (in), 13 2C3 (in), 14 A (in), 15 ~{2OE} (in), 16 VCC (power)

## SN74AS257D
designator U?
Quadruple 2-Line to 1-Line Data Selector/Multiplexer with 3-State Outputs; Published: 8-Jun-2000; LatestRevisionDate: 13-Apr-2006; LatestRevisionNote: IPC-7351 Footprint Added.; DatasheetVersion: May-1986; PackageVersion: Jan-1998; PackageReference: D016; Publisher: Altium Limited; PackageDescription: 16-Pin Small Outline Integrated Circuit 1.27 mm Pitch; Code_IPC: SOIC127P600-16; ComponentLink1Description: Manufacturer Link; ComponentLink1URL: http://www.ti.com/
footprint D016_N (SOIC, 16-Leads, Body 9.9x3.9mm, Pitch 1.27mm, IPC Medium Density)
footprint D016_L (SOIC, 16-Leads, Body 9.9x3.9mm, Pitch 1.27mm, IPC High Density)
footprint D016_M (SOIC, 16-Leads, Body 9.9x3.9mm, Pitch 1.27mm, IPC Low Density)
3D model D016 (16-Pin Small Outline Integrated Circuit 1.27 mm Pitch)
signal-integrity model SN74AS257D
pins: 1 ~{A}/B (in), 2 1A (in), 3 1B (in), 4 1Y (hiz), 5 2A (in), 6 2B (in), 7 2Y (hiz), 8 GND (power), 9 3Y (hiz), 10 3B (in), 11 3A (in), 12 4Y (hiz), 13 4B (in), 14 4A (in), 15 ~{OE} (in), 16 VCC (power)